# EAGLE library part MCP413X (library IC & Transistor)
Digital Potentiometer
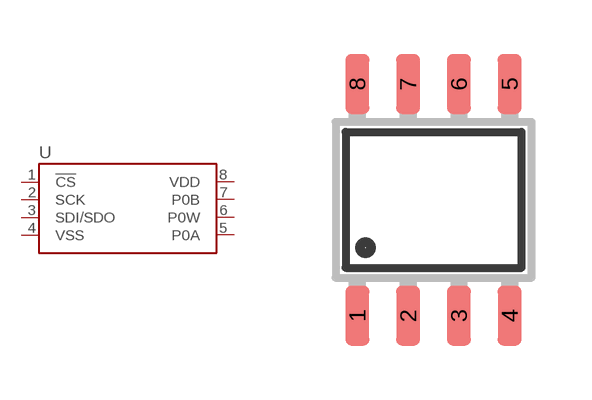
[diagram p21: symbol with the pads of SOIC-08N; footprint SOIC-08N]

Designator prefix U

## MCP413X_(103E/SN) (DESC: Digital Potentiometer; MF: Microchip; MPN: MCP4131-103E/SN; VALUE: 10K), MCP413X_MCP4131T_(103E/SN) (CYTRON-PC: S-IC-MCP4131T-SO8; DESC: S Digital POT MCP4131T-503E/SN SO8; MF: MICROCHIP; MPN: MCP4131T-503E/SN)  [SOIC-08N]
1  !CS
2  SCK
3  SDI/SDO
4  VSS
5  P0A
6  P0W
7  P0B
8  VDD

## Footprint SOIC-08N (pad centres in mm)
Small Outline Integrated Circuit (SOIC) Narrow (JEDEC) SOIC Package Size: 4.9mm x 3.9mm Lead Pitch: 1.27mm
smd 0.6 x 1.5: 1 -1.905,-2.9; 2 -0.635,-2.9; 3 0.635,-2.9; 4 1.905,-2.9; 5 1.905,2.9; 6 0.635,2.9; 7 -0.635,2.9; 8 -1.905,2.9